# EAGLE library part MAX2640EUT (library receiver_2v0)
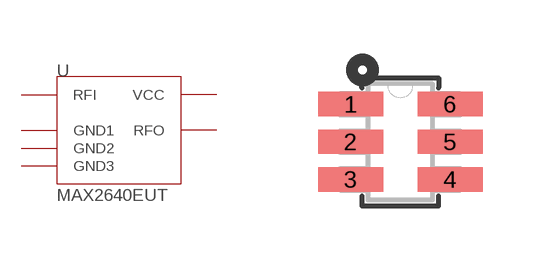
[diagram p5: symbol with the pads of SOT23-6; footprint SOT23-6]

Designator prefix U

## MAX2640EUT  [SOT23-6]
1  RFI  in
2  GND1  pwr
3  GND2  pwr
4  RFO  out
5  GND3  pwr
6  VCC  pwr

## Footprint SOT23-6 (pad centres in mm)
smd 1.626 x 0.61: 1 -1.195,0.95; 2 -1.195,0.01; 3 -1.195,-0.93; 4 1.295,-0.93; 5 1.295,0.01; 6 1.295,0.95